# EAGLE library part OPTOC_DUAL_OC (library 1)
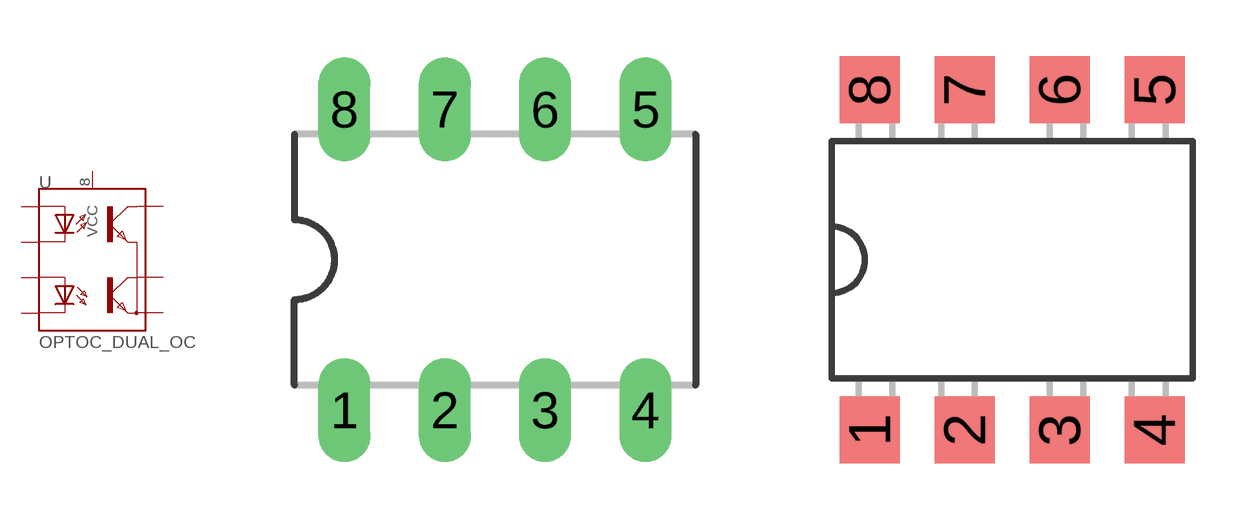
[diagram p55: symbol with the pads of DIL08; footprints DIL08, SMD-8]

Designator prefix U

## OPTOC_DUAL_OCDIP  [DIL08]
1  A1  pas
2  C1  pas
3  C2  pas
4  A2  pas
5  GND  pas
6  VO2  pas
7  VO1  pas
8  VCC  pas

## OPTOC_DUAL_OCSMD  [SMD-8]
Pads as for DIL08

## Footprint DIL08 (pad centres in mm)
drill 0.813 long: 1 -3.81,-3.81; 2 -1.27,-3.81; 3 1.27,-3.81; 4 3.81,-3.81; 5 3.81,3.81; 6 1.27,3.81; 7 -1.27,3.81; 8 -3.81,3.81

## Footprint SMD-8 (pad centres in mm)
SMD-8
smd 1.6 x 1.8: 1 -3.81,-4.55; 2 -1.27,-4.55; 3 1.27,-4.55; 4 3.81,-4.55; 5 3.81,4.55; 6 1.27,4.55; 7 -1.27,4.55; 8 -3.81,4.55